# Altium integrated library Sensor_and_Sensors_Interface.IntLib: 3 symbols
Pins are listed as number, name and electrical type; pins without a type are passive.

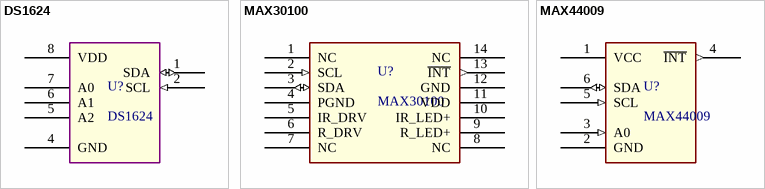
[diagram p0: symbols DS1624 to MAX44009]

## DS1624
designator U?
Digital Thermometer and Memory; ComponentLink1Description: Datasheet; ComponentLink1URL: https://datasheets.maximintegrated.com/en/ds/DS1624.pdf; Supplier 1: Mouser; Supplier Part Number 1: 700-DS1624S
footprint SOIC127P531X198-8 (IPC-7351C Small Outline IC (SOIC), 1.27 mm pitch; 8 pin, 5.31 mm L X 5.285 mm W X 2.13 mm H body)
footprint DIP762W47P254L991H457Q8 - duplicate (DIP, 7.62 mm lead span, 2.54 mm pitch; 8 pin, 9.91 mm L X 7.87 mm W X 4.572 mm H body)
pins: 1 SDA (io) "Data Input/Output Pin for 2-Wire Serial  Communication Port", 2 SCL (in) "Clock Input/Output Pin for 2-Wire Serial  Communication Port", 3 NC hidden "No Connection. No Internal Connection", 4 GND (power) "Ground", 5 A2 "Address Input", 6 A1 "Address Input", 7 A0 "Address Input", 8 VDD (power) "2.7V to 5.5V Input Power-Supply Voltage"

## MAX30100
designator U?
Pulse Oximeter and Heart-Rate Sensor IC for Wearable Health; ComponentLink1Description: Datasheet; ComponentLink1URL: https://datasheets.maximintegrated.com/en/ds/MAX30100.pdf
footprint MAX30100_14 _OESIP (F142D5+2)
pins: 1 NC, 2 SCL (in) "I2C Clock Input", 3 SDA (io) "I2C Clock Data, Bidirectional (Open-Drain)", 4 PGND (power) "Power Ground of the LED Driver Blocks", 5 IR_DRV "IR LED Cathode and LED Driver Connection Point. Leave floating in circuit.", 6 R_DRV "Red LED Cathode and LED Driver Connection Point. Leave floating in circuit", 7 NC "No Connection. Connect to PCB Pad for Mechanical Stability", 8 NC, 9 R_LED+ (power) "Power Supply (Anode Connection) for Red LED. Bypass to PGND for best performance.", 10 IR_LED+ (power) "Power Supply (Anode Connection) for IR LED. Bypass to PGND for best performance. Connected", 11 VDD (power) "Analog Power Supply Input. Bypass to GND for best performance", 12 GND (power) "Analog Ground", 13 ~{INT} (out) "Active-Low Interrupt (Open-Drain)", 14 NC

## MAX44009
designator U?
Industry's Lowest-Power Ambient Light Sensor with ADC; ComponentLink1Description: Datasheet; ComponentLink1URL: https://datasheets.maximintegrated.com/en/ds/MAX44009.pdf
footprint D622+1
pins: 1 VCC (power) "Power Supply", 2 GND (power) "Ground", 3 A0 (in) "Address Select. Pull high to select address 1001 011x or low to select address 1001 010x", 4 ~{INT} (out) "Interrupt Output. Use an external pullup resistor.", 5 SCL (in) "I2C Clock Bus", 6 SDA (io) "I2C Data Bus", 7 EP (power) hidden "Exposed Pad. Connect EP to ground"